# Altium footprint library Common_Packages.PcbLib: 6 footprints
Each footprint in its own frame and in the unit in brackets; x right, y up, seen from the top. Pads: shape width x height; smd on the part's side, far side on the other; paste and mask are expansions set on the pad; w line width, h text height; cw(c..) or ccw(c..) is an arc to the next point about the centre after c.
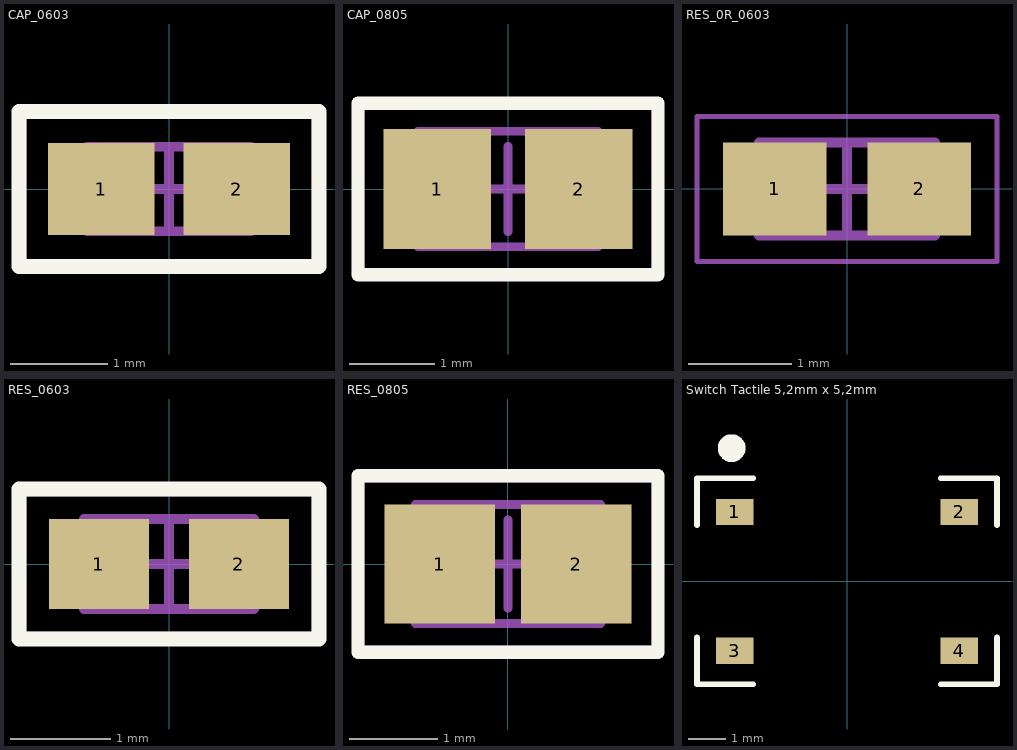
[diagram p0: the footprints below, top view; thin cyan lines are the x and y axes]

## CAP_0603 [mm] "Chip Capacitor, 2-Leads, Body 1,60x0,80mm, IPC Medium Density"
height 0.87
pads (2):
  rect 1.1x0.95 smd: 1(-0.7,0) 2(0.7,0)
Top Overlay:
  lines w0.153: -1.55,-0.8 -1.55,0.8 1.55,0.8 1.55,-0.8 -1.55,-0.8
Top Assembly:
  lines w0.1: -0.85,-0.435 -0.85,0.435 0.85,0.435 0.85,-0.435 -0.85,-0.435
Top Courtyard:
  lines w0.05: -1.5,-0.75 -1.5,0.75 1.5,0.75 1.5,-0.75 -1.5,-0.75
  lines w0.1: -0.435,0 0.435,0 ; 0,-0.435 0,0.435
3D body "CAP_0603.step": height 0.87, standoff 0, extent -0.85,-0.435 0.85,0.435

## CAP_0805 [mm] "Chip Capacitor, 2-Leads, Body 2,00x1,25mm, IPC Medium Density"
height 1.35
pads (2):
  rect 1.25x1.4 smd: 1(-0.825,0) 2(0.825,0)
Top Overlay:
  lines w0.153: -1.75,-1 -1.75,1 1.75,1 1.75,-1 -1.75,-1
Top Assembly:
  lines w0.1: -1.05,-0.675 -1.05,0.675 1.05,0.675 1.05,-0.675 -1.05,-0.675
Top Courtyard:
  lines w0.05: -1.7,-0.95 -1.7,0.95 1.7,0.95 1.7,-0.95 -1.7,-0.95
  lines w0.1: -0.5,0 0.5,0 ; 0,-0.5 0,0.5
3D body "CAP_0805.step": height 1.35, standoff 0, extent -1.05,-0.675 1.05,0.675

## RES_0R_0603 [mm] "0 Ohm resistor placeholder"
height 0.55
pads (2):
  rect 1x0.9 smd: 1(-0.7,0) 2(0.7,0)
Top Assembly:
  lines w0.1: -0.85,-0.45 0.85,-0.45 0.85,0.45 -0.85,0.45 -0.85,-0.45
Top Courtyard:
  lines w0.05: -1.45,-0.7 1.45,-0.7 1.45,0.7 -1.45,0.7 -1.45,-0.7
  lines w0.1: -0.45,0 0.45,0 ; 0,-0.45 0,0.45

## RES_0603 [mm] "Chip Resistor, 2-Leads, Body 1,60x0,80mm, IPC Medium Density"
height 0.55
pads (2):
  rect 1x0.9 smd: 1(-0.7,0) 2(0.7,0)
Top Overlay:
  lines w0.153: -1.5,-0.75 -1.5,0.75 1.5,0.75 1.5,-0.75 -1.5,-0.75
Top Assembly:
  lines w0.1: -0.85,-0.45 0.85,-0.45 0.85,0.45 -0.85,0.45 -0.85,-0.45
Top Courtyard:
  lines w0.05: -1.45,-0.7 1.45,-0.7 1.45,0.7 -1.45,0.7 -1.45,-0.7
  lines w0.1: -0.45,0 0.45,0 ; 0,-0.45 0,0.45
3D body "RES_0603_2.step": height 0.55, standoff 0, extent -0.85,-0.45 0.85,0.45

## RES_0805 [mm] "Chip Resistor, 2-Leads, Body 2,00x1,25mm, IPC Medium Density"
height 0.6
pads (2):
  rect 1.25x1.35 smd: 1(-0.775,0) 2(0.775,0)
Top Overlay:
  lines w0.15: -1.7,-1 1.7,-1 1.7,1 -1.7,1 -1.7,-1
Top Assembly:
  lines w0.1: -1.05,-0.675 -1.05,0.675 1.05,0.675 1.05,-0.675 -1.05,-0.675
Top Courtyard:
  lines w0.05: -1.65,-0.95 -1.65,0.95 1.65,0.95 1.65,-0.95 -1.65,-0.95
  lines w0.1: -0.5,0 0.5,0 ; 0,-0.5 0,0.5
3D body "RES_0805.step": height 0.6, standoff 0, extent -1.05,-0.675 1.05,0.675

## Switch Tactile 5,2mm x 5,2mm [mm] "Switch Tactile SPST-NO 5,2mm x 5,2mm"
pads (4):
  rect 1x0.7 smd: 1(-3,1.85) 2(3,1.85) 3(-3,-1.85) 4(3,-1.85)
Top Overlay:
  circle w0.5: c-3.075,3.55 r0.12
  lines w0.152: -4,-1.5 -4,-2.75 -3.75,-2.75 -2.5,-2.75 ; -4,1.5 -4,2.75 -3.75,2.75 -2.5,2.75 ; 2.5,-2.75 3.75,-2.75 4,-2.75 4,-1.5 ; 2.5,2.75 3.75,2.75 4,2.75 4,1.5
3D body "PTS526 SMG15 SMTR2 LFS--3DModel-STEP-1.STEP": height 1.7, standoff 0, extent -3.2,-2.6 3.2,2.6